# Altium footprint library SOIC127P600X100-9N.PcbLib: 1 footprints
Each footprint in its own frame and in the unit in brackets; x right, y up, seen from the top. Pads: shape width x height; smd on the part's side, far side on the other; paste and mask are expansions set on the pad; w line width, h text height; cw(c..) or ccw(c..) is an arc to the next point about the centre after c.
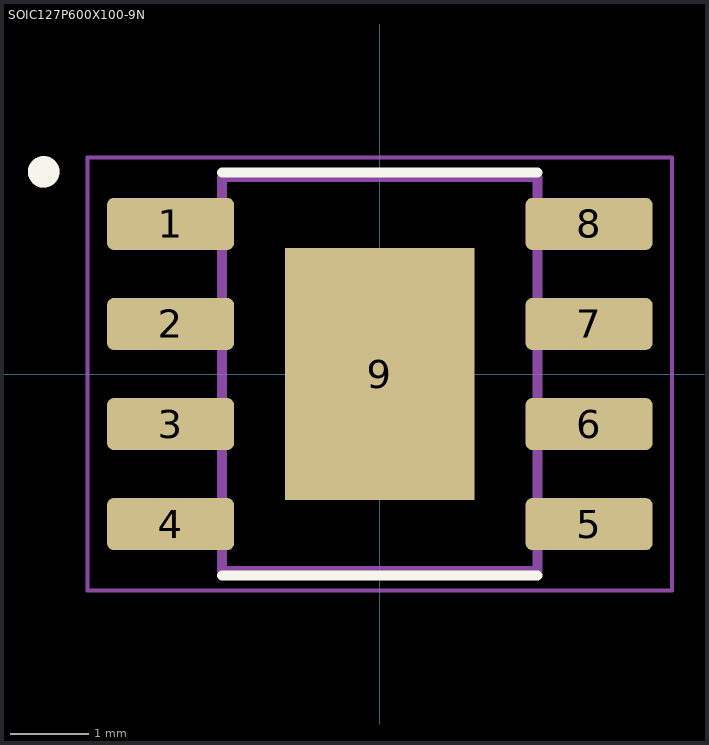
[diagram p0: the footprint, top view; thin cyan lines are the x and y axes]

## SOIC127P600X100-9N [mm]
pads (9):
  rrect25% 1.61x0.66 smd: 1(-2.655,1.905) 2(-2.655,0.635) 3(-2.655,-0.635) 4(-2.655,-1.905) 5(2.655,-1.905) 6(2.655,-0.635) 7(2.655,0.635) 8(2.655,1.905)
  rect 2.4x3.2 smd paste-3: 9(0,0)
Top Overlay:
  circle w0.2: c-4.265,2.565 r0.1
  lines w0.127: -2,-2.555 2,-2.555 ; -2,2.555 2,2.555
Top Paste:
  region: 0.935,0.135 0.135,0.135 0.135,1.335 0.935,1.335
  region: 0.935,-1.335 0.135,-1.335 0.135,-0.135 0.935,-0.135
  region: -0.135,-1.335 -0.935,-1.335 -0.935,-0.135 -0.135,-0.135
  region: -0.135,0.135 -0.935,0.135 -0.935,1.335 -0.135,1.335
Mechanical 13:
  circle w0.2: c-4.265,2.565 r0.1
  lines w0.127: -2,-2.5 -2,2.5 2,2.5 2,-2.5 -2,-2.5
Mechanical 15:
  lines w0.05: -3.71,-2.75 -3.71,2.75 3.71,2.75 3.71,-2.75 -3.71,-2.75